# Altium schematic symbol library EMIF06-MSD02N16.SchLib: 1 symbol
Pins are listed as number, name and electrical type; pins without a type are passive.

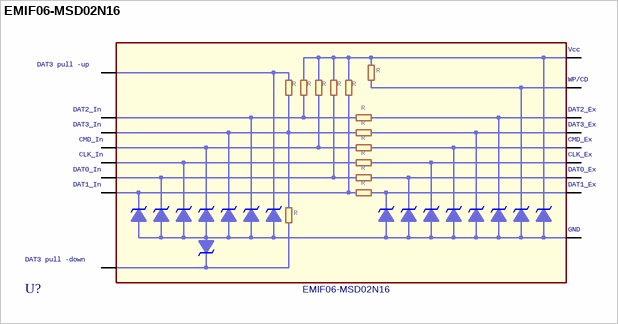
[diagram p0: symbol EMIF06-MSD02N16]

## EMIF06-MSD02N16
designator U?
footprint ST_QFN40P350X120X50-17L
pins: 1 WP/CD, 2 DAT3 pull -down, 3 DAT2_In, 4 DAT3_In, 5 CMD_In, 6 CLK_In, 7 DAT0_In, 8 DAT1_In, 9 DAT1_Ex, 10 DAT0_Ex, 11 CLK_Ex, 12 CMD_Ex, 13 DAT3_Ex, 14 DAT2_Ex, 15 Vcc, 16 DAT3 pull -up, 17 GND
text: R